# Altium footprint library HSMF-C11B.PcbLib: 1 footprints
Each footprint in its own frame and in the unit in brackets; x right, y up, seen from the top. Pads: shape width x height; smd on the part's side, far side on the other; paste and mask are expansions set on the pad; w line width, h text height; cw(c..) or ccw(c..) is an arc to the next point about the centre after c.
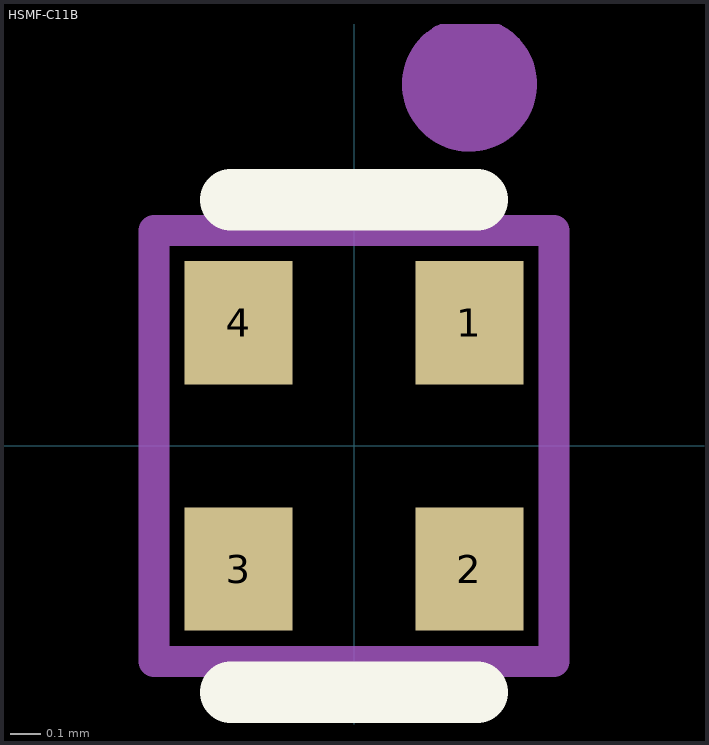
[diagram p0: the footprint, top view; thin cyan lines are the x and y axes]

## HSMF-C11B [mm]
height 0.9
pads (4):
  rect 0.35x0.4 smd paste+0 mask+0.05: 1(0.375,0.4) 2(0.375,-0.4) 3(-0.375,-0.4) 4(-0.375,0.4)
Top Overlay:
  lines w0.2: -0.4,-0.8 0.4,-0.8 ; -0.4,0.8 0.4,0.8
Top Assembly:
  circle w0.254: c0.375,1.175 r0.092
  lines w0.1: -0.65,-0.7 -0.65,0.7 0.65,0.7 0.65,-0.7 -0.65,-0.7
  text "'.Designator'" at -4.532,-0.333 h0.8
3D body: height 0.25, standoff 0, extent -0.54,-0.54 0.54,0.54